# Altium footprint library QFN50P300X200X80_HS-9N.PcbLib: 1 footprints
Each footprint in its own frame and in the unit in brackets; x right, y up, seen from the top. Pads: shape width x height; smd on the part's side, far side on the other; paste and mask are expansions set on the pad; w line width, h text height; cw(c..) or ccw(c..) is an arc to the next point about the centre after c.
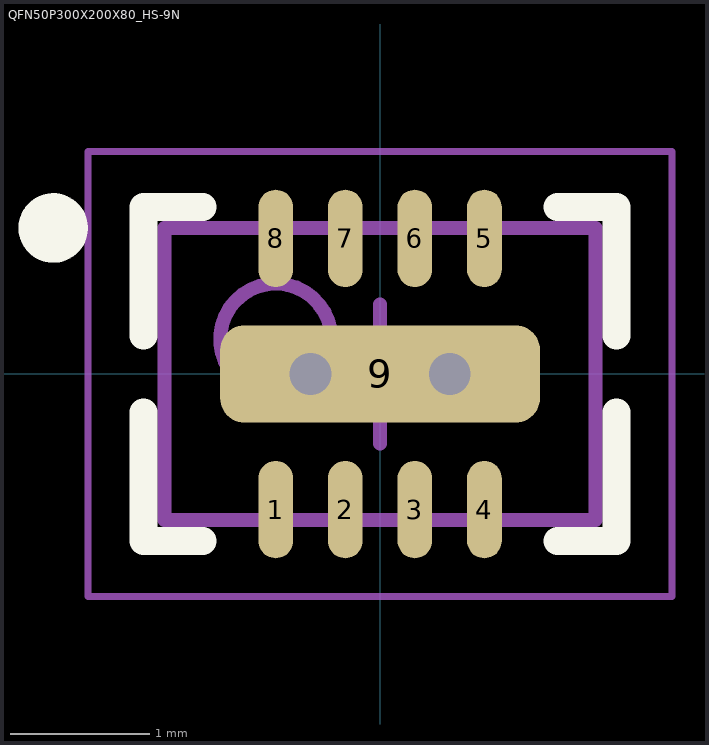
[diagram p0: the footprint, top view; thin cyan lines are the x and y axes]

## QFN50P300X200X80_HS-9N [mm] "QFN, 8-Leads, Body 3,00x2,00mm, Pitch 0,50mm, Thermal Pad 2,20x0,61mm, IPC Medium Density"
height 0.8
pads (9):
  oval 0.25x0.7 smd mask+0.05: 1(-0.75,-0.975) 2(-0.25,-0.975) 3(0.25,-0.975) 4(0.75,-0.975) 5(0.75,0.975) 6(0.25,0.975) 7(-0.25,0.975) 8(-0.75,0.975)
  rrect50% 2.3x0.7 smd mask+0.05: 9(0,0)
via 0.5,0 diameter 0.6 hole 0.3
via -0.5,0 diameter 0.6 hole 0.3
Top Overlay:
  circle w0.25: c-2.35,1.05 r0.125
  lines w0.2: -1.7,-0.275 -1.7,-1.2 -1.275,-1.2 ; -1.7,0.275 -1.7,1.2 -1.275,1.2 ; 1.275,-1.2 1.7,-1.2 1.7,-0.275 ; 1.275,1.2 1.7,1.2 1.7,0.275
Top Assembly:
  circle w0.1: c-0.75,0.25 r0.4
  lines w0.1: -1.55,-1.05 1.55,-1.05 1.55,1.05 -1.55,1.05 -1.55,-1.05
Top Courtyard:
  lines w0.05: -2.1,-1.6 2.1,-1.6 2.1,1.6 -2.1,1.6 -2.1,-1.6
  lines w0.1: -0.5,0 0.5,0 ; 0,-0.5 0,0.5
3D body "QFN50P300X200X80_HS-9N.step": height 0.8, standoff 0, extent -1.55,-1.1 1.55,1.1